# Altium schematic symbol library U_LM4120.SchLib: 1 symbol
Pins are listed as number, name and electrical type; pins without a type are passive.

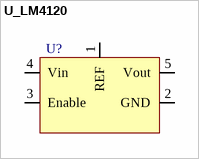
[diagram p0: symbol U_LM4120]

## U_LM4120
designator U?
pins: 1 REF, 2 GND, 3 Enable, 4 Vin, 5 Vout